# EAGLE library part LT1013DS8 (library psu)
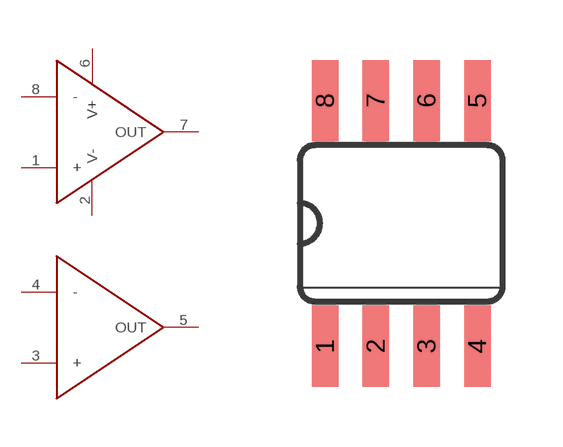
[diagram p0: symbol with the pads of SO08; footprint SO08]

Designator prefix -; gates G$1=LT1013DS8-1 G$2=LT1013DS8-2

## LT1013DS8  [SO08]
1  G$1:+
2  G$1:V-
3  G$2:+
4  G$2:-
5  G$2:OUT
6  G$1:V+
7  G$1:OUT
8  G$1:-

## Footprint SO08 (pad centres in mm)
smd 0.66 x 2.032: 1 -1.905,-3.073; 2 -0.635,-3.073; 3 0.635,-3.073; 4 1.905,-3.073; 5 1.905,3.073; 6 0.635,3.073; 7 -0.635,3.073; 8 -1.905,3.073